# Altium schematic symbol library Term,Header,Vert,2 Pin,3mm.Schlib: 1 symbol
Pins are listed as number, name and electrical type; pins without a type are passive.

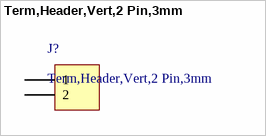
[diagram p0: symbol Term,Header,Vert,2 Pin,3mm]

## Term,Header,Vert,2 Pin,3mm
designator J?
Connector Header Through Hole 2 position
pins: 1, 2